# Altium footprint library MyPcbLib.PcbLib: 46 footprints (part 3 of 3)
Each footprint in its own frame and in the unit in brackets; x right, y up, seen from the top. Pads: shape width x height; smd on the part's side, far side on the other; paste and mask are expansions set on the pad; w line width, h text height; cw(c..) or ccw(c..) is an arc to the next point about the centre after c.
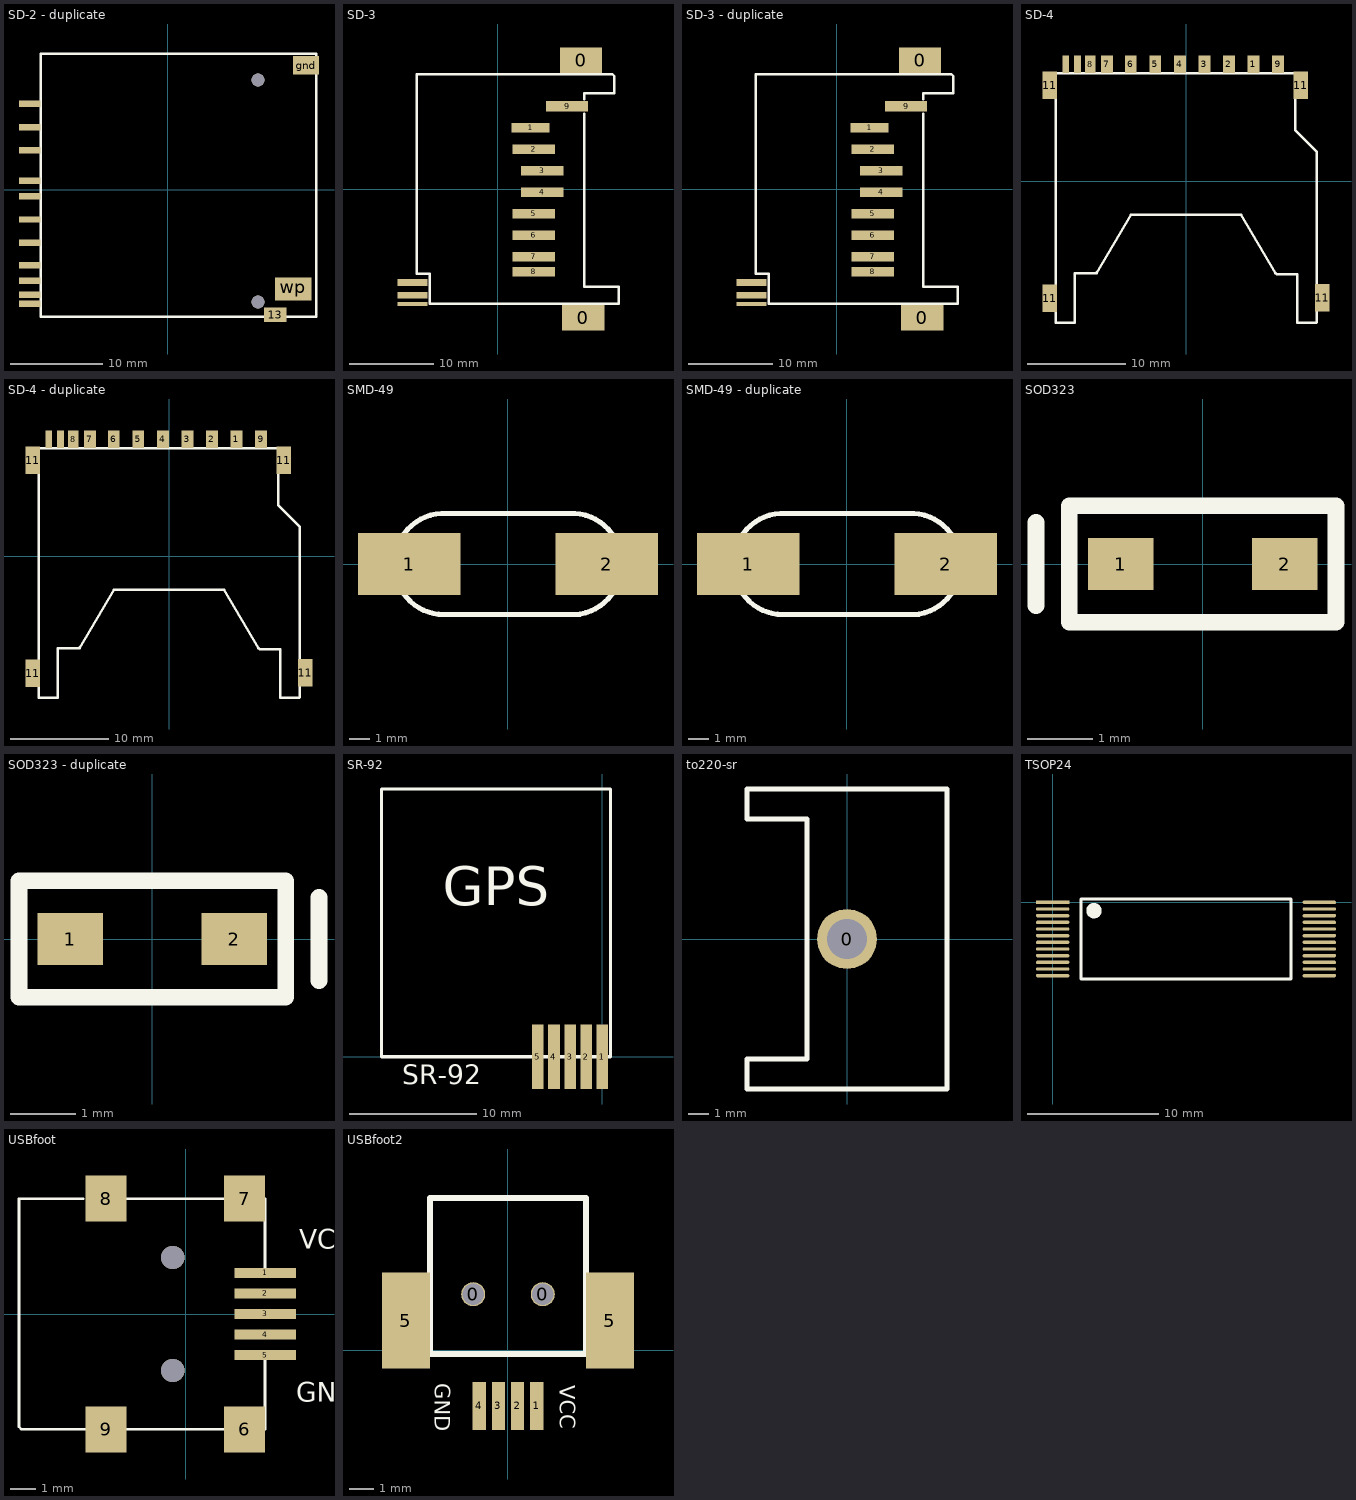
[diagram p2: the footprints below, top view; thin cyan lines are the x and y axes]

## SD-2 - duplicate [mm]
pads (14):
  rect 2.35x0.7 smd: 1(-14.935,6.8) 2(-14.935,4.3) 3(-14.935,1) 4(-14.935,-0.7) 5(-14.935,-3.2) 6(-14.935,-5.7) 7(-14.935,-8.13) 8(-14.935,-9.82) 9(-14.935,9.3) cd(-14.935,-11.32) com(-14.935,-12.32)
  rect 2.4x1.6 smd: 13(11.595,-13.5)
  rect 2.8x2 smd: gnd(14.935,13.5)
  rect 3.95x2.5 smd: wp(13.565,-10.7)
via 9.735,11.9 diameter 1.4 hole 1.4
via 9.735,-12.1 diameter 1.4 hole 1.4
Top Overlay:
  lines w0.254: -13.76,-13.72 16.045,-13.72 16.045,14.72 -13.76,14.72 -13.76,-13.72

## SD-3 [mm]
pads (14):
  rect 5x3 smd: 0(9.843,15.24) 0(10.097,-15.24)
  rect 4.5x1.143 smd: 1(3.874,7.239)
  rect 5x1.143 smd: 2(4.255,4.699) 3(5.271,2.159) 4(5.271,-0.381) 5(4.255,-2.921) 6(4.255,-5.461) 7(4.255,-8.001) 8(4.255,-9.779)
  rect 5x1.27 smd: 9(8.192,9.779)
  rect 3.556x0.8 smd: 10(-10.097,-11.049) 11(-10.097,-12.573)
  rect 3.556x0.5 smd: 12(-10.097,-13.589)
Top Overlay:
  lines w0.3: 7.683,-13.589 14.287,-13.589 14.287,-11.557 10.223,-11.557 10.223,8.889 ; 8.191,-13.589 -8.065,-13.589 -8.065,-10.033 -9.589,-10.033 -9.589,13.589 8.191,13.589 13.525,13.589 13.779,13.335 13.779,11.303 10.223,11.303 10.223,10.59

## SD-3 - duplicate [mm]
pads (14):
  rect 5x3 smd: 0(9.843,15.24) 0(10.097,-15.24)
  rect 4.5x1.143 smd: 1(3.874,7.239)
  rect 5x1.143 smd: 2(4.255,4.699) 3(5.271,2.159) 4(5.271,-0.381) 5(4.255,-2.921) 6(4.255,-5.461) 7(4.255,-8.001) 8(4.255,-9.779)
  rect 5x1.27 smd: 9(8.192,9.779)
  rect 3.556x0.8 smd: 10(-10.097,-11.049) 11(-10.097,-12.573)
  rect 3.556x0.5 smd: 12(-10.097,-13.589)
Top Overlay:
  lines w0.3: 7.683,-13.589 14.287,-13.589 14.287,-11.557 10.223,-11.557 10.223,8.889 ; 8.191,-13.589 -8.065,-13.589 -8.065,-10.033 -9.589,-10.033 -9.589,13.589 8.191,13.589 13.525,13.589 13.779,13.335 13.779,11.303 10.223,11.303 10.223,10.59

## SD-4 [mm]
pads (15):
  rect 1.2x1.8 smd: 1(6.858,11.917) 2(4.369,11.917) 3(1.875,11.908) 4(-0.625,11.908) 5(-3.125,11.908) 6(-5.625,11.908) 7(-8.05,11.908) 9(9.375,11.908)
  rect 1.1x1.8 smd: 8(-9.754,11.917)
  rect 0.7x1.8 smd: 10(-11.05,11.908) 12(-12.243,11.917)
  rect 1.5x2.8 smd: 11(-13.868,-11.917) 11(-13.868,9.774) 11(11.684,9.774) 11(13.868,-11.866)
Top Overlay:
  lines w0.254: -11.3,-9.383 -11.3,-14.383 -13.273,-14.383 -13.273,11.003 -13.259,11.017 11.1,11.017 11.1,5.207 13.289,3.018 13.3,3.018 13.3,-14.356 13.273,-14.383 11.3,-14.383 11.3,-9.484 9.258,-9.484 9.1,-9.326 ; -11.249,-9.377 -9.207,-9.377 -9.049,-9.219 ; -9.1,-9.377 -5.588,-3.383 ; -5.6,-3.383 5.6,-3.383 9.1,-9.377
Multi-Layer:
  circle w0.254: c9.5,8.657 r0.82
  circle w0.254: c-11.532,8.617 r0.58

## SD-4 - duplicate [mm]
pads (15):
  rect 1.2x1.8 smd: 1(6.858,11.917) 2(4.369,11.917) 3(1.875,11.908) 4(-0.625,11.908) 5(-3.125,11.908) 6(-5.625,11.908) 7(-8.05,11.908) 9(9.375,11.908)
  rect 1.1x1.8 smd: 8(-9.754,11.917)
  rect 0.7x1.8 smd: 10(-11.05,11.908) 12(-12.243,11.917)
  rect 1.5x2.8 smd: 11(-13.868,-11.917) 11(-13.868,9.774) 11(11.684,9.774) 11(13.868,-11.866)
Top Overlay:
  lines w0.254: -11.3,-9.383 -11.3,-14.383 -13.273,-14.383 -13.273,11.003 -13.259,11.017 11.1,11.017 11.1,5.207 13.289,3.018 13.3,3.018 13.3,-14.356 13.273,-14.383 11.3,-14.383 11.3,-9.484 9.258,-9.484 9.1,-9.326 ; -11.249,-9.377 -9.207,-9.377 -9.049,-9.219 ; -9.1,-9.377 -5.588,-3.383 ; -5.6,-3.383 5.6,-3.383 9.1,-9.377
Multi-Layer:
  circle w0.254: c9.5,8.657 r0.82
  circle w0.254: c-11.532,8.617 r0.58

## SMD-49 [mm]
pads (2):
  rect 5.08x3.048 smd: 1(-4.885,0) 2(4.885,0)
Top Overlay:
  lines w0.254: -5.587,0 ccw(c-3.195,-0.108) -3.175,-2.502 ; -5.585,0 cw(c-3.192,0.108) -3.3,2.5 3.302,2.5 cw(c3.195,0.108) 5.587,0 cw(c3.195,-0.108) 3.302,-2.5 ; -3.175,-2.5 3.556,-2.5

## SMD-49 - duplicate [mm]
pads (2):
  rect 5.08x3.048 smd: 1(-4.885,0) 2(4.885,0)
Top Overlay:
  lines w0.254: -5.587,0 ccw(c-3.195,-0.108) -3.175,-2.502 ; -5.585,0 cw(c-3.192,0.108) -3.3,2.5 3.302,2.5 cw(c3.195,0.108) 5.587,0 cw(c3.195,-0.108) 3.302,-2.5 ; -3.175,-2.5 3.556,-2.5

## SOD323 [mm]
pads (2):
  rect 1x0.8 smd: 1(-1.25,0) 2(1.25,0)
Top Overlay:
  lines w0.254: -2.54,-0.635 -2.54,0.635 ; -2.032,-0.889 -2.032,0.889 2.032,0.889 2.032,-0.889 -2.032,-0.889

## SOD323 - duplicate [mm]
pads (2):
  rect 1x0.8 smd: 1(-1.25,0) 2(1.25,0)
Top Overlay:
  lines w0.254: 2.54,-0.635 2.54,0.635 ; -2.032,-0.889 2.032,-0.889 2.032,0.889 -2.032,0.889 -2.032,-0.889

## SR-92 [mil] "GPS module SR-92"
height 200
pads (5):
  rect 36x200 smd: 1(0,0) 2(-50,0) 3(-100,0) 4(-150,0) 5(-200,0)
Top Overlay:
  lines w10: -685,0 25,0 25,830 -685,830 -685,0
  text "SR-92" at -620,-85 h60
  text "GPS" at -495,470 h120

## to220-sr [mm]
pads (1):
  round 3 hole 2: 0(0,0)
Top Overlay:
  lines w0.254: -5,-7.5 -5,-6 -2,-6 -2,6 -5,6 -5,7.5 5,7.5 5,-7.5 -5,-7.5

## TSOP24 [mil]
pads (24):
  rect 100x10 smd: 1(0,0)
  oval 100x10 smd: 2(0,-20) 3(0,-40) 4(0,-60) 5(0,-80) 6(0,-100) 7(0,-120) 8(0,-140) 9(0,-160) 10(0,-180) 11(0,-200) 12(0,-220) 13(800,-220) 14(800,-200) 15(800,-180) 16(800,-160) 17(800,-140) 18(800,-120) 19(800,-100) 20(800,-80) 21(800,-60) 22(800,-40) 23(800,-20) 24(800,0)
Top Overlay:
  circle w23.62: c123.82,-25 r11.18
  lines w10: 390,10 715,10 715,-230 85,-230 85,10 395,10

## USBfoot [mm]
pads (9):
  rect 2.4x0.4 smd: 1(3.1,1.6) 2(3.1,0.8) 3(3.1,0) 4(3.1,-0.8) 5(3.1,-1.6)
  rect 1.6x1.8 smd: 6(2.3,-4.5) 7(2.3,4.5) 8(-3.1,4.5) 9(-3.1,-4.5)
via -0.5,-2.2 diameter 0.9 hole 0.9
via -0.5,2.2 diameter 0.9 hole 0.9
Top Overlay:
  lines w0.1: -4,4.5 -6.5,4.5 -6.5,-4.4 -6.4,-4.5 -3.9,-4.5 ; -2.3,-4.5 1.5,-4.5 ; -2.3,4.5 1.5,4.5 ; 3.1,-4.5 3.1,-1.8 ; 3.1,1.8 3.1,4.5
  text "GND" at 4.318,-3.429 h0.76
  text "VCC" at 4.445,2.54 h0.76

## USBfoot2 [mm]
pads (8):
  round 1 hole 0.9: 0(-1.45,2.325) 0(1.45,2.325)
  rect 0.55x2 smd: 1(1.2,-2.325) 2(0.4,-2.325) 3(-0.4,-2.325) 4(-1.2,-2.325)
  rect 2x4 smd: 5(-4.25,1.225) 5(4.25,1.225)
Top Overlay:
  lines w0.254: -3.25,-0.175 3.25,-0.175 3.25,6.325 -3.25,6.325 -3.25,-0.175
  text "GND" at -3.05,-1.375 h0.64
  text "VCC" at 2.15,-1.475 h0.64